# EAGLE library part MPQ4480 (library ICs)
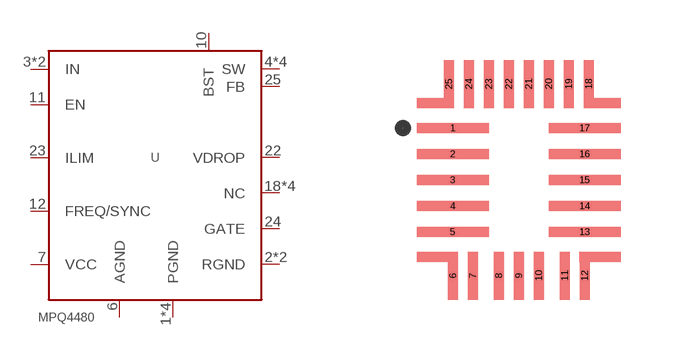
[diagram p44: symbol with the pads of QFN-25; footprint QFN-25]

Designator prefix -

## MPQ4480 (MFG: MPS; MPN: MPQ4480; VALUE: MPQ4480)  [QFN-25]
1  PGND
2  RGND
3  IN
4  SW
5  PGND
6  AGND
7  VCC
8  SW
9  SW
10  BST
11  EN
12  FREQ/SYNC
13  PGND
14  SW
15  IN
16  RGND
17  PGND
18  NC
19  NC
20  NC
21  NC
22  VDROP
23  ILIM
24  GATE
25  FB

## Footprint QFN-25 (pad centres in mm)
smd 1.8 x 0.25: 1 -1.65,1.3; 2 -1.65,0.65; 3 -1.65,0; 4 -1.65,-0.65; 5 -1.65,-1.3; 13 1.65,-1.3; 14 1.65,-0.65; 15 1.65,0; 16 1.65,0.65; 17 1.65,1.3
smd 0.25 x 1.2: 6 -1.65,-2.4; 7 -1.15,-2.4; 8 -0.5,-2.4; 9 0,-2.4; 10 0.5,-2.4; 11 1.15,-2.4; 12 1.65,-2.4; 18 1.75,2.4; 19 1.25,2.4; 20 0.75,2.4; 21 0.25,2.4; 22 -0.25,2.4; 23 -0.75,2.4; 24 -1.25,2.4; 25 -1.75,2.4